# EAGLE library part STM32F051KXU (library stm32)
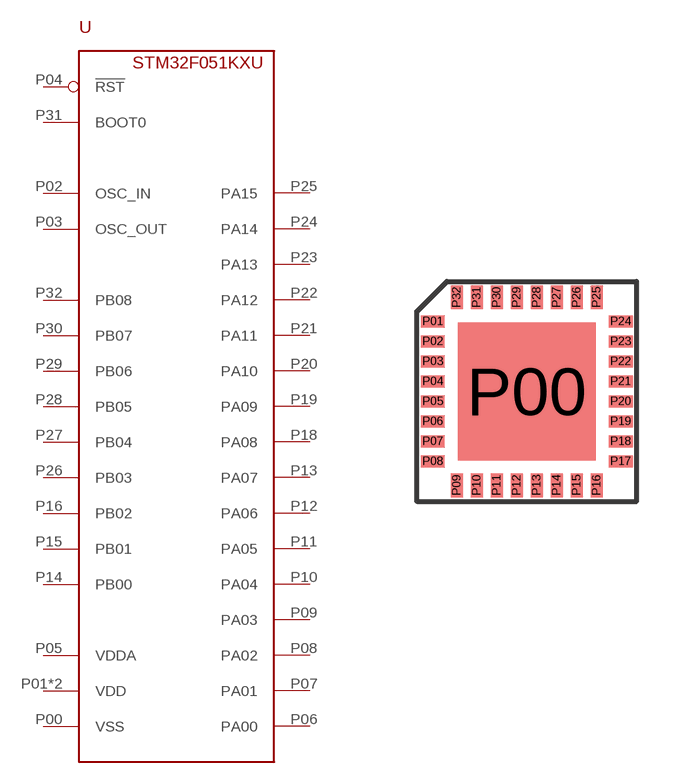
[diagram p1: symbol with the pads of UFQFPN32; footprint UFQFPN32]

Designator prefix -

## STM32F051KXU  [UFQFPN32]
P00  VSS  pwr
P01  VDD  pwr
P02  OSC_IN  in
P03  OSC_OUT  in
P04  !RST  in
P05  VDDA  pwr
P06  PA00
P07  PA01
P08  PA02
P09  PA03
P10  PA04
P11  PA05
P12  PA06
P13  PA07
P14  PB00
P15  PB01
P16  PB02
P17  VDD  pwr
P18  PA08
P19  PA09
P20  PA10
P21  PA11
P22  PA12
P23  PA13
P24  PA14
P25  PA15
P26  PB03
P27  PB04
P28  PB05
P29  PB06
P30  PB07
P31  BOOT0  in
P32  PB08

## Footprint UFQFPN32 (pad centres in mm)
smd 3.45 x 3.45: P00 0,0
smd 0.6 x 0.3: P01 -2.35,1.75; P02 -2.35,1.25; P03 -2.35,0.75; P04 -2.35,0.25; P05 -2.35,-0.25; P06 -2.35,-0.75; P07 -2.35,-1.25; P08 -2.35,-1.75; P17 2.35,-1.75; P18 2.35,-1.25; P19 2.35,-0.75; P20 2.35,-0.25; P21 2.35,0.25; P22 2.35,0.75; P23 2.35,1.25; P24 2.35,1.75
smd 0.3 x 0.6: P09 -1.75,-2.35; P10 -1.25,-2.35; P11 -0.75,-2.35; P12 -0.25,-2.35; P13 0.25,-2.35; P14 0.75,-2.35; P15 1.25,-2.35; P16 1.75,-2.35; P25 1.75,2.35; P26 1.25,2.35; P27 0.75,2.35; P28 0.25,2.35; P29 -0.25,2.35; P30 -0.75,2.35; P31 -1.25,2.35; P32 -1.75,2.35